# EAGLE library part SY89296U (library yapo)
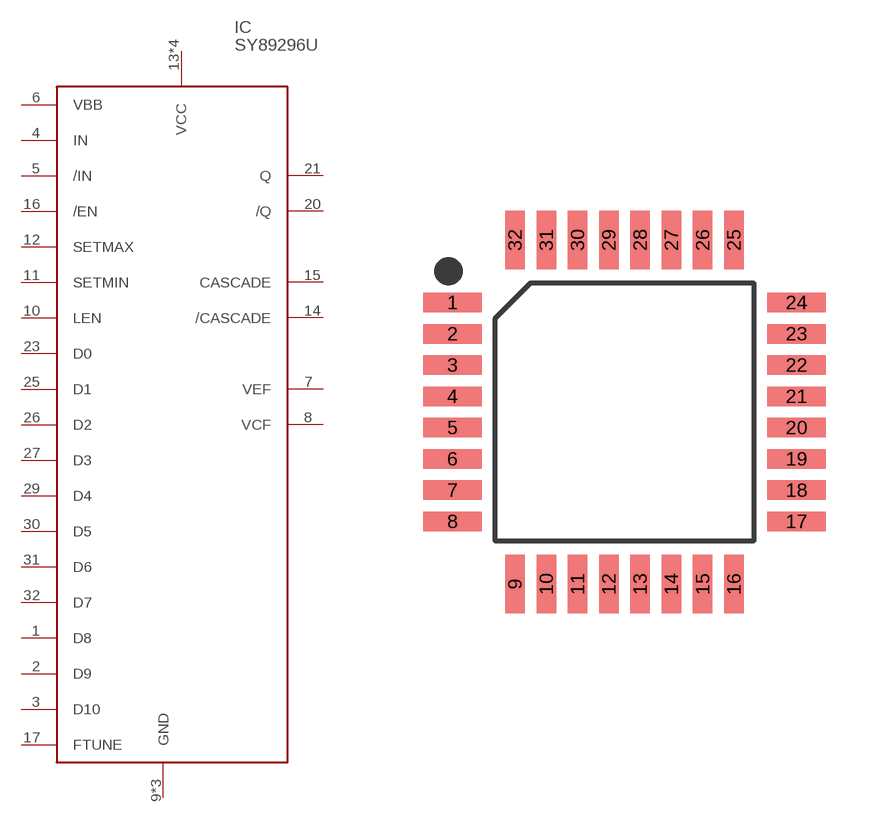
[diagram p44: symbol with the pads of TQFP32_7X7; footprint TQFP32_7X7]

Designator prefix IC

## SY89296U  [TQFP32_7X7]
1  D8
2  D9
3  D10
4  IN
5  /IN
6  VBB
7  VEF
8  VCF
9  GND
10  LEN
11  SETMIN
12  SETMAX
13  VCC
14  /CASCADE
15  CASCADE
16  /EN
17  FTUNE
18  VCC
19  VCC
20  /Q
21  Q
22  VCC
23  D0
24  GND
25  D1
26  D2
27  D3
28  GND
29  D4
30  D5
31  D6
32  D7

## Footprint TQFP32_7X7 (pad centres in mm)
smd 1.5 x 0.5: 1 -4.4,2.8; 2 -4.4,2; 3 -4.4,1.2; 4 -4.4,0.4; 5 -4.4,-0.4; 6 -4.4,-1.2; 7 -4.4,-2; 8 -4.4,-2.8; 17 4.4,-2.8; 18 4.4,-2; 19 4.4,-1.2; 20 4.4,-0.4; 21 4.4,0.4; 22 4.4,1.2; 23 4.4,2; 24 4.4,2.8
smd 0.5 x 1.5: 9 -2.8,-4.4; 10 -2,-4.4; 11 -1.2,-4.4; 12 -0.4,-4.4; 13 0.4,-4.4; 14 1.2,-4.4; 15 2,-4.4; 16 2.8,-4.4; 25 2.8,4.4; 26 2,4.4; 27 1.2,4.4; 28 0.4,4.4; 29 -0.4,4.4; 30 -1.2,4.4; 31 -2,4.4; 32 -2.8,4.4